# Altium schematic symbol library cpu.SchLib: 3 symbols
Pins are listed as number, name and electrical type; pins without a type are passive.

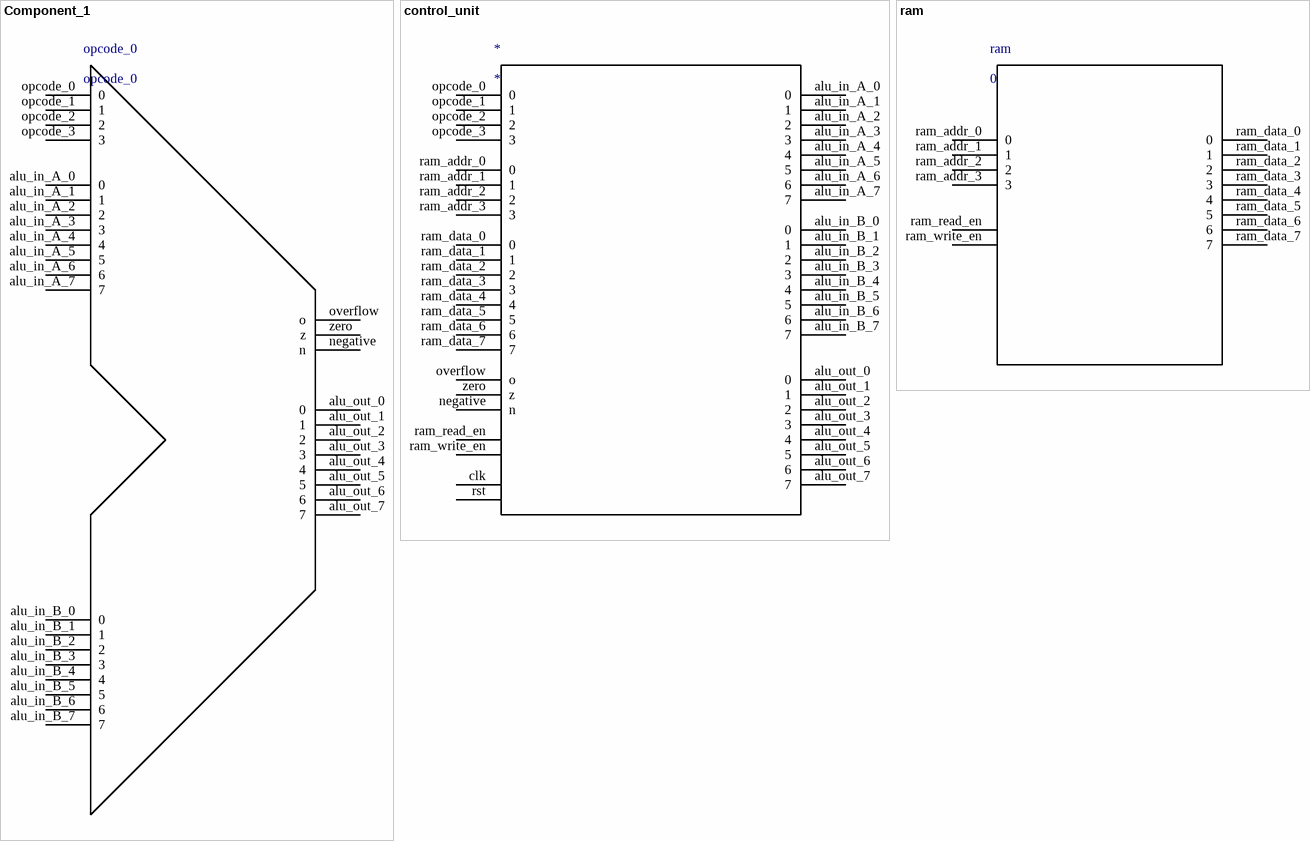
[diagram p0: symbols Component_1 to ram]

## Component_1
designator opcode_0, comment opcode_0
pins: alu_in_A_0 0, alu_in_A_1 1, alu_in_A_2 2, alu_in_A_3 3, alu_in_A_4 4, alu_in_A_5 5, alu_in_A_6 6, alu_in_A_7 7, alu_in_B_0 0, alu_in_B_1 1, alu_in_B_2 2, alu_in_B_3 3, alu_in_B_4 4, alu_in_B_5 5, alu_in_B_6 6, alu_in_B_7 7, alu_out_0 0, alu_out_1 1, alu_out_2 2, alu_out_3 3, alu_out_4 4, alu_out_5 5, alu_out_6 6, alu_out_7 7, negative n, opcode_0 0, opcode_1 1, opcode_2 2, opcode_3 3, overflow o, zero z

## control_unit
designator *
pins: alu_in_A_0 0, alu_in_A_1 1, alu_in_A_2 2, alu_in_A_3 3, alu_in_A_4 4, alu_in_A_5 5, alu_in_A_6 6, alu_in_A_7 7, alu_in_B_0 0, alu_in_B_1 1, alu_in_B_2 2, alu_in_B_3 3, alu_in_B_4 4, alu_in_B_5 5, alu_in_B_6 6, alu_in_B_7 7, alu_out_0 0, alu_out_1 1, alu_out_2 2, alu_out_3 3, alu_out_4 4, alu_out_5 5, alu_out_6 6, alu_out_7 7, clk, negative n, opcode_0 0, opcode_1 1, opcode_2 2, opcode_3 3, overflow o, ram_addr_0 0, ram_addr_1 1, ram_addr_2 2, ram_addr_3 3, ram_data_0 0, ram_data_1 1, ram_data_2 2, ram_data_3 3, ram_data_4 4, ram_data_5 5, ram_data_6 6, ram_data_7 7, ram_read_en, ram_write_en, rst, zero z

## ram
designator ram, comment 0
pins: ram_addr_0 0, ram_addr_1 1, ram_addr_2 2, ram_addr_3 3, ram_data_0 0, ram_data_1 1, ram_data_2 2, ram_data_3 3, ram_data_4 4, ram_data_5 5, ram_data_6 6, ram_data_7 7, ram_read_en, ram_write_en